# Altium integrated library PCM1808PWR.IntLib: 1 symbol
Pins are listed as number, name and electrical type; pins without a type are passive.

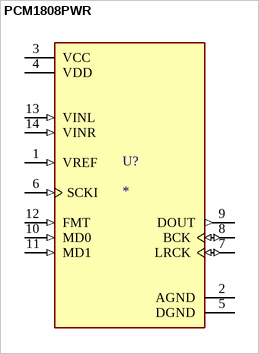
[diagram p0: symbol PCM1808PWR]

## PCM1808PWR
designator U?
24-bit, 99-dB SNR, 96-kHz stereo ADC with single-ended inputs; MF: Texas Instruments; MP: PCM1808PWR; SnapEDA_Link: https://www.snapeda.com/parts/PCM1808PWR/Texas+Instruments/view-part/?ref=snap; Package: TSSOP-14 Texas Instruments; Value: *; Check_prices: https://www.snapeda.com/parts/PCM1808PWR/Texas+Instruments/view-part/?ref=eda
footprint SOP65P640X120-14N
pins: 1 VREF (in), 2 AGND (power), 3 VCC (power), 4 VDD (power), 5 DGND (power), 6 SCKI (in), 7 LRCK (io), 8 BCK (io), 9 DOUT (out), 10 MD0 (in), 11 MD1 (in), 12 FMT (in), 13 VINL (in), 14 VINR (in)